# EAGLE library part AS-ITM-00158 (library tinycircuits)
0.96" OLED Display
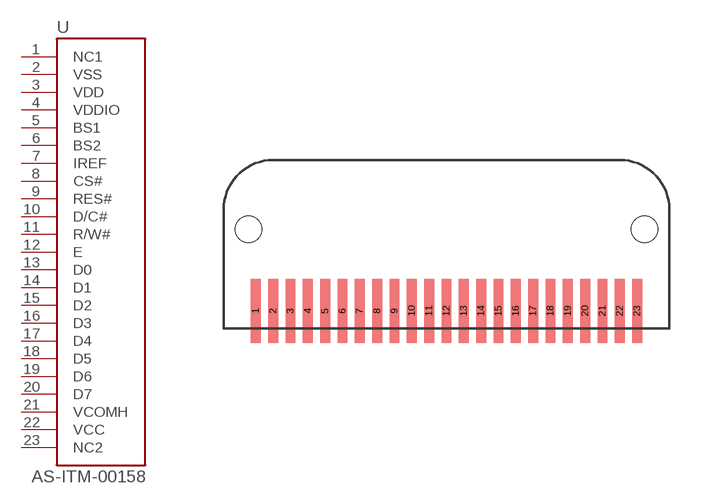
[diagram p71: symbol with the pads of OLED_DISPLAY; footprint OLED_DISPLAY]

Designator prefix U

## AS-ITM-00158 (PARTNO: AS-ITM-00158; VALUE: UG-9664HDDAG01)  [OLED_DISPLAY]
1  NC1
2  VSS
3  VDD
4  VDDIO
5  BS1
6  BS2
7  IREF
8  CS#
9  RES#
10  D/C#
11  R/W#
12  E
13  D0
14  D1
15  D2
16  D3
17  D4
18  D5
19  D6
20  D7
21  VCOMH
22  VCC
23  NC2

## AS-ITM-00158FLIPPED (PARTNO: AS-ITM-00158; VALUE: UG-9664HDDAG01)  [OLED_DISPLAY]
1  NC2
2  VCC
3  VCOMH
4  D7
5  D6
6  D5
7  D4
8  D3
9  D2
10  D1
11  D0
12  E
13  R/W#
14  D/C#
15  RES#
16  CS#
17  IREF
18  BS2
19  BS1
20  VDDIO
21  VDD
22  VSS
23  NC1

## Footprint OLED_DISPLAY (pad centres in mm)
smd 0.4 x 2.6: 1 -7.7,0.2; 2 -7,0.2; 3 -6.3,0.2; 4 -5.6,0.2; 5 -4.9,0.2; 6 -4.2,0.2; 7 -3.5,0.2; 8 -2.8,0.2; 9 -2.1,0.2; 10 -1.4,0.2; 11 -0.7,0.2; 12 0,0.2; 13 0.7,0.2; 14 1.4,0.2; 15 2.1,0.2; 16 2.8,0.2; 17 3.5,0.2; 18 4.2,0.2; 19 4.9,0.2; 20 5.6,0.2; 21 6.3,0.2; 22 7,0.2; 23 7.7,0.2
hole 1.05 at 8,3.5
hole 1.05 at -8,3.5